# EAGLE library part P095S (library pot-tt_electronics)
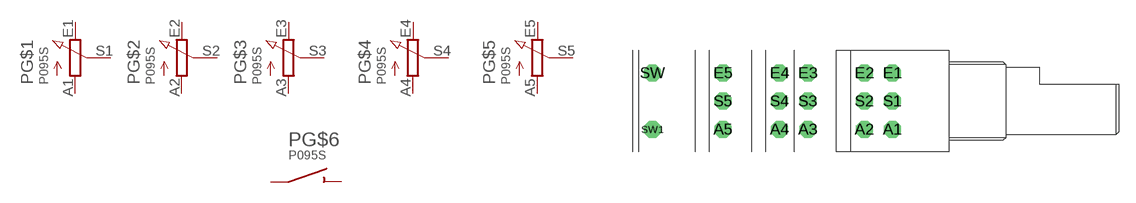
[diagram p6: symbol with the pads of P095S; footprint P095S]

Designator prefix P; gates G$1=POT_EU- G$2=POT_EU- G$3=POT_EU- G$4=POT_EU- G$5=POT_EU- G$6=SW

## P095S  [P095S]
A1  G$1:A  pas
A2  G$2:A  pas
A3  G$3:A  pas
A4  G$4:A  pas
A5  G$5:A  pas
E1  G$1:E  pas
E2  G$2:E  pas
E3  G$3:E  pas
E4  G$4:E  pas
E5  G$5:E  pas
S1  G$1:S  pas
S2  G$2:S  pas
S3  G$3:S  pas
S4  G$4:S  pas
S5  G$5:S  pas
SW  G$6:SW  pas
SW1  G$6:SW1  pas

## Footprint P095S (pad centres in mm)
drill 1 octagon: A1 -5,-2.5; A2 -7.5,-2.5; A3 -12.5,-2.5; A4 -15,-2.5; A5 -20,-2.5; E1 -5,2.5; E2 -7.5,2.5; E3 -12.5,2.5; E4 -15,2.5; E5 -20,2.5; S1 -5,0; S2 -7.5,0; S3 -12.5,0; S4 -15,0; S5 -20,0; SW -26.25,2.5; SW1 -26.25,-2.5